# Altium schematic symbol library Symbol.SchLib: 32 symbols
Pins are listed as number, name and electrical type; pins without a type are passive.

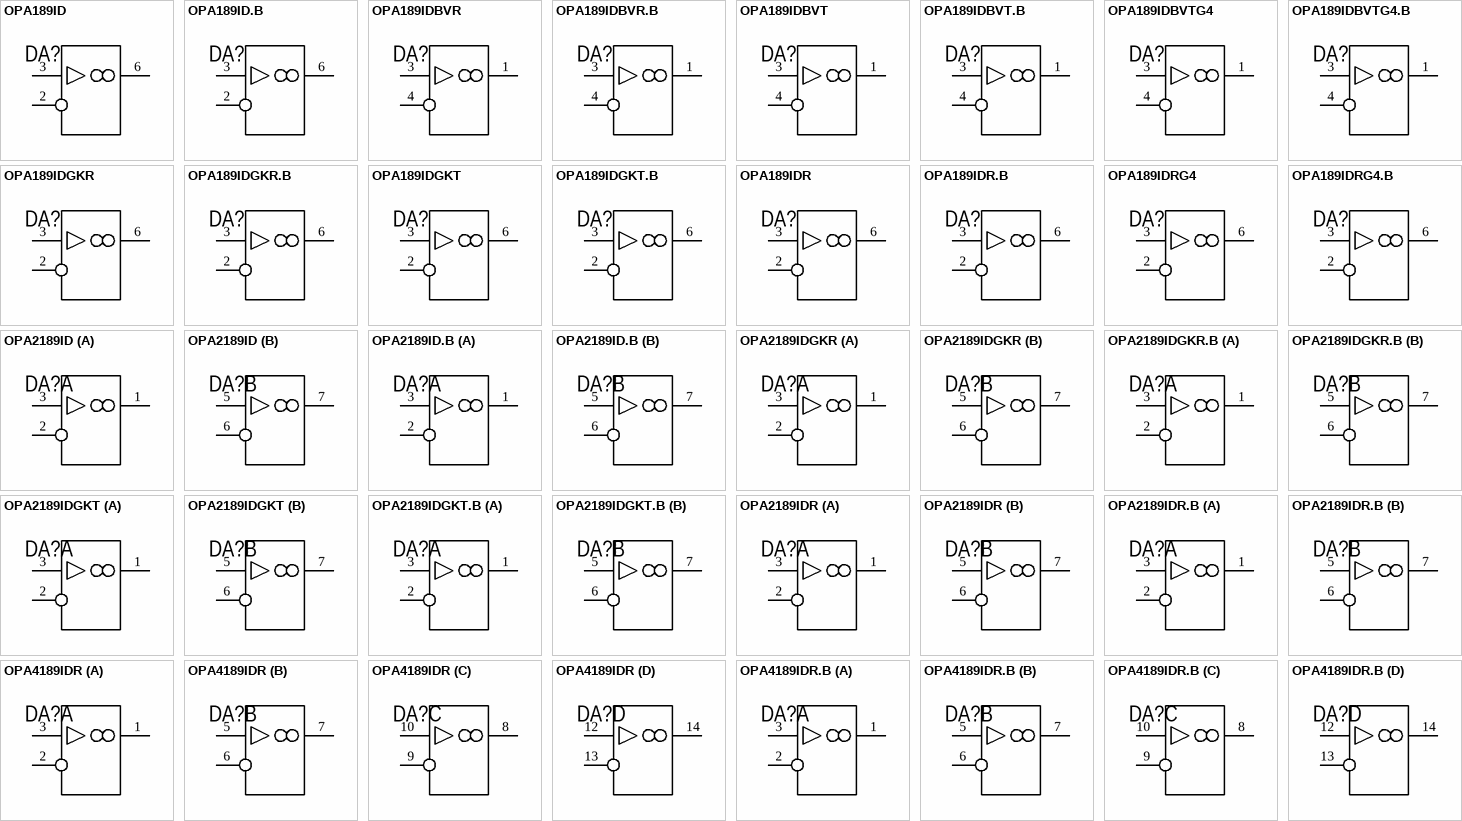
[diagram p0: symbols OPA189ID to OPA4189IDR.B]

## OPA189ID
designator DA?  (value not drawn)
OPAx189 Precision, Lowest-Noise, 36-V, Zero-Drift, 14-MHz, MUX-Friendly, Rail-to-Rail Output Operational Amplifiers
footprint D0008A (SOIC, 8-Leads, Body 5.00x3.90 mm, IPC Medium Density)
pins: 2 -IN, 3 +IN, 6 OUT A

## OPA189ID.B
designator DA?  (value not drawn)
OPAx189 Precision, Lowest-Noise, 36-V, Zero-Drift, 14-MHz, MUX-Friendly, Rail-to-Rail Output Operational Amplifiers
footprint D0008A (SOIC, 8-Leads, Body 5.00x3.90 mm, IPC Medium Density)
pins: 2 -IN, 3 +IN, 6 OUT A

## OPA189IDBVR
designator DA?  (value not drawn)
OPAx189 Precision, Lowest-Noise, 36-V, Zero-Drift, 14-MHz, MUX-Friendly, Rail-to-Rail Output Operational Amplifiers
footprint DBV0005A (SOT-23, 5-Leads, Body 3.05x1.75 mm, IPC Medium Density)
pins: 1 OUT A, 3 +IN, 4 -IN

## OPA189IDBVR.B
designator DA?  (value not drawn)
OPAx189 Precision, Lowest-Noise, 36-V, Zero-Drift, 14-MHz, MUX-Friendly, Rail-to-Rail Output Operational Amplifiers
footprint DBV0005A (SOT-23, 5-Leads, Body 3.05x1.75 mm, IPC Medium Density)
pins: 1 OUT A, 3 +IN, 4 -IN

## OPA189IDBVT
designator DA?  (value not drawn)
OPAx189 Precision, Lowest-Noise, 36-V, Zero-Drift, 14-MHz, MUX-Friendly, Rail-to-Rail Output Operational Amplifiers
footprint DBV0005A (SOT-23, 5-Leads, Body 3.05x1.75 mm, IPC Medium Density)
pins: 1 OUT A, 3 +IN, 4 -IN

## OPA189IDBVT.B
designator DA?  (value not drawn)
OPAx189 Precision, Lowest-Noise, 36-V, Zero-Drift, 14-MHz, MUX-Friendly, Rail-to-Rail Output Operational Amplifiers
footprint DBV0005A (SOT-23, 5-Leads, Body 3.05x1.75 mm, IPC Medium Density)
pins: 1 OUT A, 3 +IN, 4 -IN

## OPA189IDBVTG4
designator DA?  (value not drawn)
OPAx189 Precision, Lowest-Noise, 36-V, Zero-Drift, 14-MHz, MUX-Friendly, Rail-to-Rail Output Operational Amplifiers
footprint DBV0005A (SOT-23, 5-Leads, Body 3.05x1.75 mm, IPC Medium Density)
pins: 1 OUT A, 3 +IN, 4 -IN

## OPA189IDBVTG4.B
designator DA?  (value not drawn)
OPAx189 Precision, Lowest-Noise, 36-V, Zero-Drift, 14-MHz, MUX-Friendly, Rail-to-Rail Output Operational Amplifiers
footprint DBV0005A (SOT-23, 5-Leads, Body 3.05x1.75 mm, IPC Medium Density)
pins: 1 OUT A, 3 +IN, 4 -IN

## OPA189IDGKR
designator DA?  (value not drawn)
OPAx189 Precision, Lowest-Noise, 36-V, Zero-Drift, 14-MHz, MUX-Friendly, Rail-to-Rail Output Operational Amplifiers
footprint DGK0008A (VSSOP, 8-Leads, Body 3.10x3.10 mm, IPC Medium Density)
pins: 2 -IN, 3 +IN, 6 OUT A

## OPA189IDGKR.B
designator DA?  (value not drawn)
OPAx189 Precision, Lowest-Noise, 36-V, Zero-Drift, 14-MHz, MUX-Friendly, Rail-to-Rail Output Operational Amplifiers
footprint DGK0008A (VSSOP, 8-Leads, Body 3.10x3.10 mm, IPC Medium Density)
pins: 2 -IN, 3 +IN, 6 OUT A

## OPA189IDGKT
designator DA?  (value not drawn)
OPAx189 Precision, Lowest-Noise, 36-V, Zero-Drift, 14-MHz, MUX-Friendly, Rail-to-Rail Output Operational Amplifiers
footprint DGK0008A (VSSOP, 8-Leads, Body 3.10x3.10 mm, IPC Medium Density)
pins: 2 -IN, 3 +IN, 6 OUT A

## OPA189IDGKT.B
designator DA?  (value not drawn)
OPAx189 Precision, Lowest-Noise, 36-V, Zero-Drift, 14-MHz, MUX-Friendly, Rail-to-Rail Output Operational Amplifiers
footprint DGK0008A (VSSOP, 8-Leads, Body 3.10x3.10 mm, IPC Medium Density)
pins: 2 -IN, 3 +IN, 6 OUT A

## OPA189IDR
designator DA?  (value not drawn)
OPAx189 Precision, Lowest-Noise, 36-V, Zero-Drift, 14-MHz, MUX-Friendly, Rail-to-Rail Output Operational Amplifiers
footprint D0008A (SOIC, 8-Leads, Body 5.00x3.90 mm, IPC Medium Density)
pins: 2 -IN, 3 +IN, 6 OUT A

## OPA189IDR.B
designator DA?  (value not drawn)
OPAx189 Precision, Lowest-Noise, 36-V, Zero-Drift, 14-MHz, MUX-Friendly, Rail-to-Rail Output Operational Amplifiers
footprint D0008A (SOIC, 8-Leads, Body 5.00x3.90 mm, IPC Medium Density)
pins: 2 -IN, 3 +IN, 6 OUT A

## OPA189IDRG4
designator DA?  (value not drawn)
OPAx189 Precision, Lowest-Noise, 36-V, Zero-Drift, 14-MHz, MUX-Friendly, Rail-to-Rail Output Operational Amplifiers
footprint D0008A (SOIC, 8-Leads, Body 5.00x3.90 mm, IPC Medium Density)
pins: 2 -IN, 3 +IN, 6 OUT A

## OPA189IDRG4.B
designator DA?  (value not drawn)
OPAx189 Precision, Lowest-Noise, 36-V, Zero-Drift, 14-MHz, MUX-Friendly, Rail-to-Rail Output Operational Amplifiers
footprint D0008A (SOIC, 8-Leads, Body 5.00x3.90 mm, IPC Medium Density)
pins: 2 -IN, 3 +IN, 6 OUT A

## OPA2189ID
designator DA?  (value not drawn)
OPAx189 Precision, Lowest-Noise, 36-V, Zero-Drift, 14-MHz, MUX-Friendly, Rail-to-Rail Output Operational Amplifiers
footprint D0008A (SOIC, 8-Leads, Body 5.00x3.90 mm, IPC Medium Density)
part A pins: 1 OUT A, 2 -IN A, 3 +IN A
part B pins: 5 +IN B, 6 -IN B, 7 OUT B

## OPA2189ID.B
designator DA?  (value not drawn)
OPAx189 Precision, Lowest-Noise, 36-V, Zero-Drift, 14-MHz, MUX-Friendly, Rail-to-Rail Output Operational Amplifiers
footprint D0008A (SOIC, 8-Leads, Body 5.00x3.90 mm, IPC Medium Density)
part A pins: 1 OUT A, 2 -IN A, 3 +IN A
part B pins: 5 +IN B, 6 -IN B, 7 OUT B

## OPA2189IDGKR
designator DA?  (value not drawn)
OPAx189 Precision, Lowest-Noise, 36-V, Zero-Drift, 14-MHz, MUX-Friendly, Rail-to-Rail Output Operational Amplifiers
footprint DGK0008A (VSSOP, 8-Leads, Body 3.10x3.10 mm, IPC Medium Density)
part A pins: 1 OUT A, 2 -IN A, 3 +IN A
part B pins: 5 +IN B, 6 -IN B, 7 OUT B

## OPA2189IDGKR.B
designator DA?  (value not drawn)
OPAx189 Precision, Lowest-Noise, 36-V, Zero-Drift, 14-MHz, MUX-Friendly, Rail-to-Rail Output Operational Amplifiers
footprint DGK0008A (VSSOP, 8-Leads, Body 3.10x3.10 mm, IPC Medium Density)
part A pins: 1 OUT A, 2 -IN A, 3 +IN A
part B pins: 5 +IN B, 6 -IN B, 7 OUT B

## OPA2189IDGKT
designator DA?  (value not drawn)
OPAx189 Precision, Lowest-Noise, 36-V, Zero-Drift, 14-MHz, MUX-Friendly, Rail-to-Rail Output Operational Amplifiers
footprint DGK0008A (VSSOP, 8-Leads, Body 3.10x3.10 mm, IPC Medium Density)
part A pins: 1 OUT A, 2 -IN A, 3 +IN A
part B pins: 5 +IN B, 6 -IN B, 7 OUT B

## OPA2189IDGKT.B
designator DA?  (value not drawn)
OPAx189 Precision, Lowest-Noise, 36-V, Zero-Drift, 14-MHz, MUX-Friendly, Rail-to-Rail Output Operational Amplifiers
footprint DGK0008A (VSSOP, 8-Leads, Body 3.10x3.10 mm, IPC Medium Density)
part A pins: 1 OUT A, 2 -IN A, 3 +IN A
part B pins: 5 +IN B, 6 -IN B, 7 OUT B

## OPA2189IDR
designator DA?  (value not drawn)
OPAx189 Precision, Lowest-Noise, 36-V, Zero-Drift, 14-MHz, MUX-Friendly, Rail-to-Rail Output Operational Amplifiers
footprint D0008A (SOIC, 8-Leads, Body 5.00x3.90 mm, IPC Medium Density)
part A pins: 1 OUT A, 2 -IN A, 3 +IN A
part B pins: 5 +IN B, 6 -IN B, 7 OUT B

## OPA2189IDR.B
designator DA?  (value not drawn)
OPAx189 Precision, Lowest-Noise, 36-V, Zero-Drift, 14-MHz, MUX-Friendly, Rail-to-Rail Output Operational Amplifiers
footprint D0008A (SOIC, 8-Leads, Body 5.00x3.90 mm, IPC Medium Density)
part A pins: 1 OUT A, 2 -IN A, 3 +IN A
part B pins: 5 +IN B, 6 -IN B, 7 OUT B

## OPA4189IDR
designator DA?, comment OPA4189IDT  (value not drawn)
OPAx189 Precision, Lowest-Noise, 36-V, Zero-Drift, 14-MHz, MUX-Friendly, Rail-to-Rail Output Operational Amplifiers
footprint D0014A (SOIC, 14-Leads, Body 8.75x4.00 mm, IPC Medium Density)
part A pins: 1 OUT A, 2 -IN A, 3 +IN A
part B pins: 5 +IN B, 6 -IN B, 7 OUT B
part C pins: 8 OUT C, 9 -IN C, 10 +IN C
part D pins: 12 +IN D, 13 -IN D, 14 OUT D

## OPA4189IDR.B
designator DA?, comment OPA4189IDT.B  (value not drawn)
OPAx189 Precision, Lowest-Noise, 36-V, Zero-Drift, 14-MHz, MUX-Friendly, Rail-to-Rail Output Operational Amplifiers
footprint D0014A (SOIC, 14-Leads, Body 8.75x4.00 mm, IPC Medium Density)
part A pins: 1 OUT A, 2 -IN A, 3 +IN A
part B pins: 5 +IN B, 6 -IN B, 7 OUT B
part C pins: 8 OUT C, 9 -IN C, 10 +IN C
part D pins: 12 +IN D, 13 -IN D, 14 OUT D

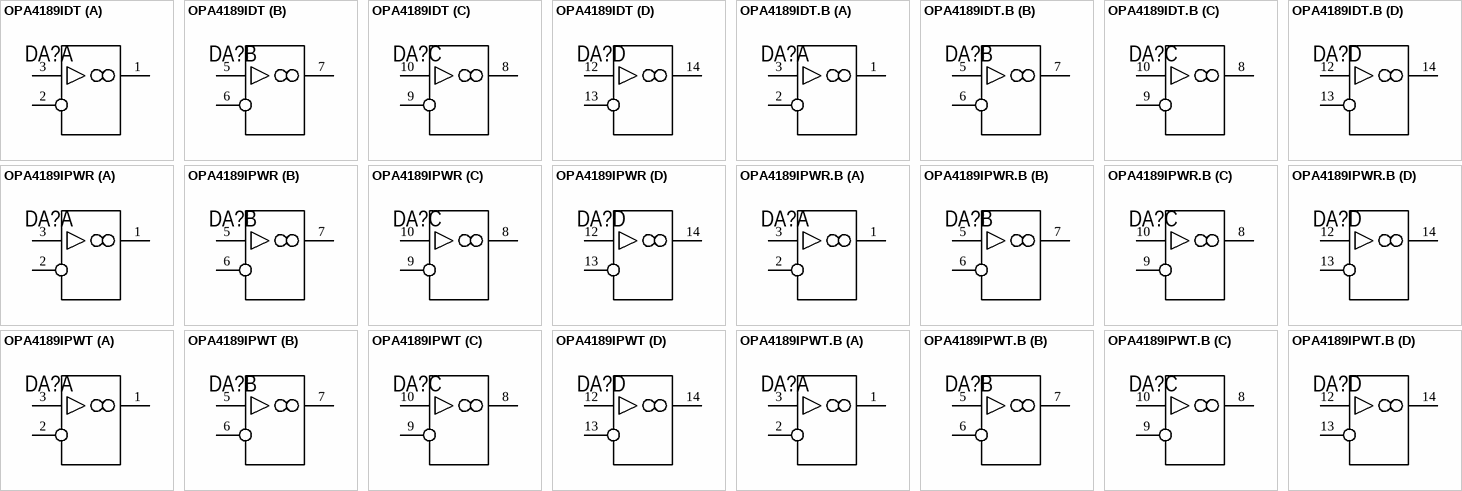
[diagram p1: symbols OPA4189IDT to OPA4189IPWT.B]

## OPA4189IDT
designator DA?  (value not drawn)
OPAx189 Precision, Lowest-Noise, 36-V, Zero-Drift, 14-MHz, MUX-Friendly, Rail-to-Rail Output Operational Amplifiers
footprint D0014A (SOIC, 14-Leads, Body 8.75x4.00 mm, IPC Medium Density)
part A pins: 1 OUT A, 2 -IN A, 3 +IN A
part B pins: 5 +IN B, 6 -IN B, 7 OUT B
part C pins: 8 OUT C, 9 -IN C, 10 +IN C
part D pins: 12 +IN D, 13 -IN D, 14 OUT D

## OPA4189IDT.B
designator DA?  (value not drawn)
OPAx189 Precision, Lowest-Noise, 36-V, Zero-Drift, 14-MHz, MUX-Friendly, Rail-to-Rail Output Operational Amplifiers
footprint D0014A (SOIC, 14-Leads, Body 8.75x4.00 mm, IPC Medium Density)
part A pins: 1 OUT A, 2 -IN A, 3 +IN A
part B pins: 5 +IN B, 6 -IN B, 7 OUT B
part C pins: 8 OUT C, 9 -IN C, 10 +IN C
part D pins: 12 +IN D, 13 -IN D, 14 OUT D

## OPA4189IPWR
designator DA?  (value not drawn)
OPAx189 Precision, Lowest-Noise, 36-V, Zero-Drift, 14-MHz, MUX-Friendly, Rail-to-Rail Output Operational Amplifiers
footprint PW0014A (TSSOP, 14-Leads, Body 5.10x4.50 mm, IPC Medium Density)
part A pins: 1 OUT A, 2 -IN A, 3 +IN A
part B pins: 5 +IN B, 6 -IN B, 7 OUT B
part C pins: 8 OUT C, 9 -IN C, 10 +IN C
part D pins: 12 +IN D, 13 -IN D, 14 OUT D

## OPA4189IPWR.B
designator DA?  (value not drawn)
OPAx189 Precision, Lowest-Noise, 36-V, Zero-Drift, 14-MHz, MUX-Friendly, Rail-to-Rail Output Operational Amplifiers
footprint PW0014A (TSSOP, 14-Leads, Body 5.10x4.50 mm, IPC Medium Density)
part A pins: 1 OUT A, 2 -IN A, 3 +IN A
part B pins: 5 +IN B, 6 -IN B, 7 OUT B
part C pins: 8 OUT C, 9 -IN C, 10 +IN C
part D pins: 12 +IN D, 13 -IN D, 14 OUT D

## OPA4189IPWT
designator DA?  (value not drawn)
OPAx189 Precision, Lowest-Noise, 36-V, Zero-Drift, 14-MHz, MUX-Friendly, Rail-to-Rail Output Operational Amplifiers
footprint PW0014A (TSSOP, 14-Leads, Body 5.10x4.50 mm, IPC Medium Density)
part A pins: 1 OUT A, 2 -IN A, 3 +IN A
part B pins: 5 +IN B, 6 -IN B, 7 OUT B
part C pins: 8 OUT C, 9 -IN C, 10 +IN C
part D pins: 12 +IN D, 13 -IN D, 14 OUT D

## OPA4189IPWT.B
designator DA?  (value not drawn)
OPAx189 Precision, Lowest-Noise, 36-V, Zero-Drift, 14-MHz, MUX-Friendly, Rail-to-Rail Output Operational Amplifiers
footprint PW0014A (TSSOP, 14-Leads, Body 5.10x4.50 mm, IPC Medium Density)
part A pins: 1 OUT A, 2 -IN A, 3 +IN A
part B pins: 5 +IN B, 6 -IN B, 7 OUT B
part C pins: 8 OUT C, 9 -IN C, 10 +IN C
part D pins: 12 +IN D, 13 -IN D, 14 OUT D